# EAGLE library part TPS563201 (library ICs)
4.5-V to 17-V Input, 3-A Synchronous Step-Down Voltage Regulator in SOT-23
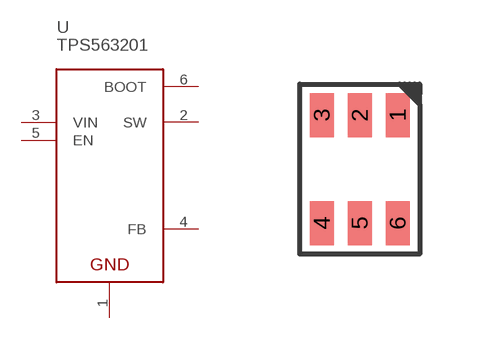
[diagram p335: symbol with the pads of SOT23-6; footprint SOT23-6]

Designator prefix U

## TPS563201DDCR (DIGIKEY: 296-47238-1-ND; HEIGHT: 1; PRICE_PER: 0.39; VALUE: TPS563201)  [SOT23-6]
1  GND
2  SW
3  VIN
4  FB
5  EN
6  BOOT

## Footprint SOT23-6 (pad centres in mm)
smd 0.6 x 1.1: 1 0.95,1.35; 2 0,1.35; 3 -0.95,1.35; 4 -0.95,-1.35; 5 0,-1.35; 6 0.95,-1.35